# Altium schematic symbol library Connector.SchLib: 48 symbols
Pins are listed as number, name and electrical type; pins without a type are passive.

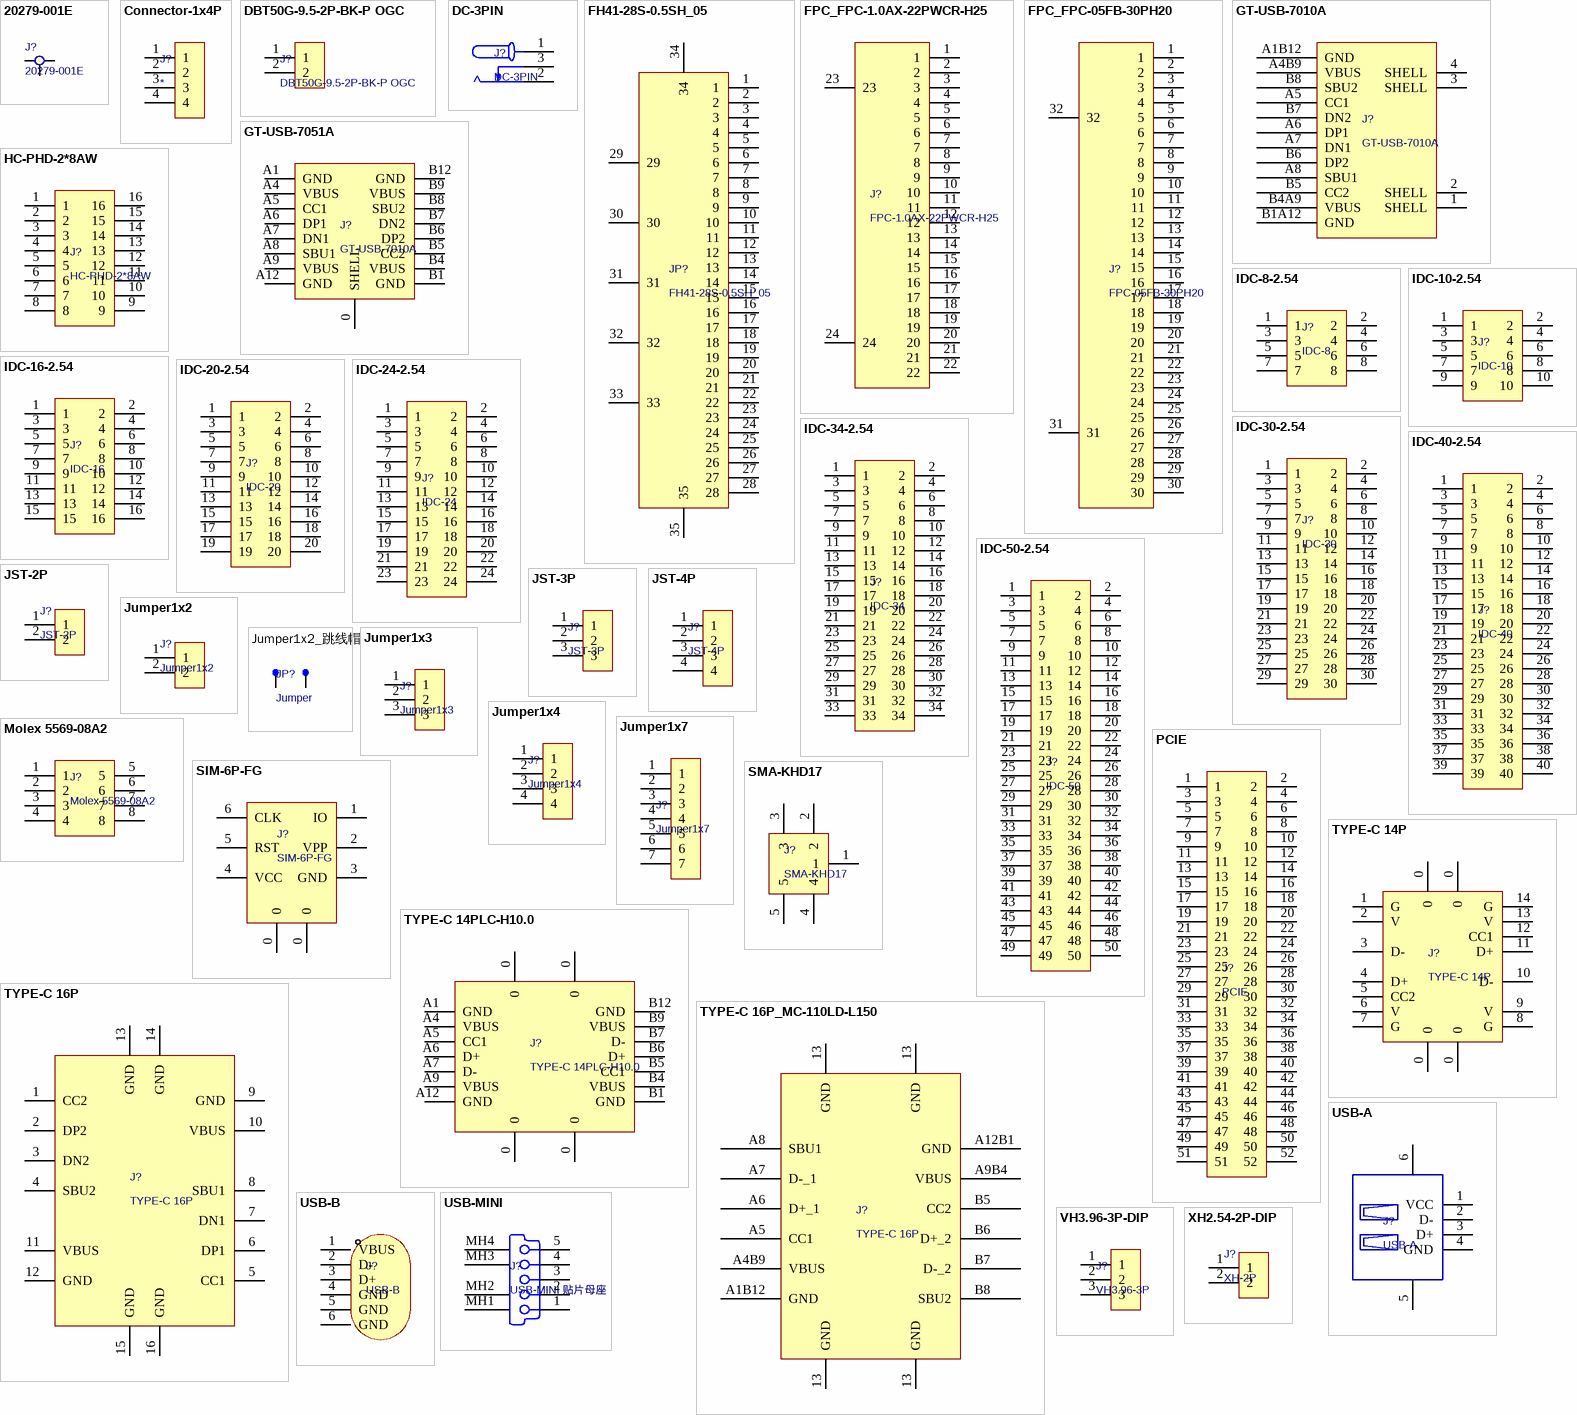
[diagram p0: symbols 20279-001E to XH2.54-2P-DIP]

## 20279-001E
designator J?
天线座; Value: 20279-001E; Value_Footprint: *; State: *
footprint 20279-001E
pins: 1, 2, 3

## Connector-1x4P
designator J?
1x4pin连接器; Value: *; Value_Footprint: *; State: *
pins: 1, 2, 3, 4

## DBT50G-9.5-2P-BK-P OGC
designator J?
栅栏式接线端子 2pin 9.5mm 带盖板; State: *; Value_Footprint: *; Value: DBT50G-9.5-2P-BK-P OGC
footprint DBT50G-9.5-2P-BK-P OGC
pins: 1, 2

## DC-3PIN
designator J?
Value: DC-3PIN; Value_Footprint: *; State: *
footprint DC_3PIN_2.5x6.2
pins: 1, 2, 3

## FH41-28S-0.5SH_05
designator JP?
Value: FH41-28S-0.5SH_05; Value_Footprint: *; State: *
footprint FH41-28S-0.5SH05
pins: 1, 2, 3, 4, 5, 6, 7, 8, 9, 10, 11, 12, 13, 14, 15, 16, 17, 18, 19, 20, 21, 22, 23, 24, 25, 26, 27, 28, 29, 30, 31, 32, 33, 34, 35

## FPC_FPC-1.0AX-22PWCR-H25
designator J?, comment FPC-1.0AX-22PWCR-H25
Value: FPC-1.0AX-22PWCR-H25; Value_Footprint: *; State: *
footprint FPC-1.0AX-22PWCR-H25
pins: 1, 2, 3, 4, 5, 6, 7, 8, 9, 10, 11, 12, 13, 14, 15, 16, 17, 18, 19, 20, 21, 22, 23, 24

## FPC_FPC-05FB-30PH20
designator J?, comment FPC-05FB-30PH20
Value: FPC-05FB-30PH20; Value_Footprint: *; State: *
footprint FPC-05FB-30PH20
pins: 1, 2, 3, 4, 5, 6, 7, 8, 9, 10, 11, 12, 13, 14, 15, 16, 17, 18, 19, 20, 21, 22, 23, 24, 25, 26, 27, 28, 29, 30, 31, 32

## GT-USB-7010A
designator J?
TYPE-C连接器16pin，前插后贴，有柱无弹; Value: GT-USB-7010A; Value_Footprint: *; State: GT-USB-7010A
footprint GT-USB-7010A (TYPE-C 16P 卧贴)
pins: 1 SHELL, 2 SHELL, 3 SHELL, 4 SHELL, A1B12 GND, A4B9 VBUS, A5 CC1, A6 DP1, A7 DN1, A8 SBU1, B1A12 GND, B4A9 VBUS, B5 CC2, B6 DP2, B7 DN2, B8 SBU2

## GT-USB-7051A
designator J?, comment GT-USB-7010A
TYPE-C连接器16pin; Value: GT-USB-7010A; Value_Footprint: *; State: GT-USB-7010A
pins: 0 SHELL, A1 GND, A4 VBUS, A5 CC1, A6 DP1, A7 DN1, A8 SBU1, A9 VBUS, A12 GND, B1 GND, B4 VBUS, B5 CC2, B6 DP2, B7 DN2, B8 SBU2, B9 VBUS, B12 GND

## HC-PHD-2*8AW
designator J?
弯插,P=2mm; Value: HC-PHD-2*8AW; Value_Footprint: *
pins: 1, 2, 3, 4, 5, 6, 7, 8, 9, 10, 11, 12, 13, 14, 15, 16

## IDC-8-2.54
designator J?, comment IDC-8
Value: IDC-8; Value_Footprint: *; State: *
footprint IDC-8-2.54
pins: 1, 2, 3, 4, 5, 6, 7, 8

## IDC-10-2.54
designator J?, comment IDC-10
Value: IDC-10; Value_Footprint: *; State: *
footprint IDC-10-2.54
pins: 1, 2, 3, 4, 5, 6, 7, 8, 9, 10

## IDC-16-2.54
designator J?, comment IDC-16
Value: IDC-16; Value_Footprint: *; State: *
footprint IDC-16-2.54
pins: 1, 2, 3, 4, 5, 6, 7, 8, 9, 10, 11, 12, 13, 14, 15, 16

## IDC-20-2.54
designator J?, comment IDC-20
Value: IDC-20; Value_Footprint: *; State: *
footprint IDC-20-2.54
pins: 1, 2, 3, 4, 5, 6, 7, 8, 9, 10, 11, 12, 13, 14, 15, 16, 17, 18, 19, 20

## IDC-24-2.54
designator J?, comment IDC-24
Value: IDC-24; Value_Footprint: *; State: *
footprint IDC-20-2.54
footprint IDC-24-2.54 (24P简易牛角座)
pins: 1, 2, 3, 4, 5, 6, 7, 8, 9, 10, 11, 12, 13, 14, 15, 16, 17, 18, 19, 20, 21, 22, 23, 24

## IDC-30-2.54
designator J?, comment IDC-30
Value: IDC-30; Value_Footprint: *; State: *
pins: 1, 2, 3, 4, 5, 6, 7, 8, 9, 10, 11, 12, 13, 14, 15, 16, 17, 18, 19, 20, 21, 22, 23, 24, 25, 26, 27, 28, 29, 30

## IDC-34-2.54
designator J?, comment IDC-34
Value: IDC-34; Value_Footprint: *; State: *
pins: 1, 2, 3, 4, 5, 6, 7, 8, 9, 10, 11, 12, 13, 14, 15, 16, 17, 18, 19, 20, 21, 22, 23, 24, 25, 26, 27, 28, 29, 30, 31, 32, 33, 34

## IDC-40-2.54
designator J?, comment IDC-40
Value: IDC-40; Value_Footprint: *; State: *
pins: 1, 2, 3, 4, 5, 6, 7, 8, 9, 10, 11, 12, 13, 14, 15, 16, 17, 18, 19, 20, 21, 22, 23, 24, 25, 26, 27, 28, 29, 30, 31, 32, 33, 34, 35, 36, 37, 38, 39, 40

## IDC-50-2.54
designator J?, comment IDC-50
Value: IDC-50; Value_Footprint: *; State: *
pins: 1, 2, 3, 4, 5, 6, 7, 8, 9, 10, 11, 12, 13, 14, 15, 16, 17, 18, 19, 20, 21, 22, 23, 24, 25, 26, 27, 28, 29, 30, 31, 32, 33, 34, 35, 36, 37, 38, 39, 40, 41, 42, 43, 44, 45, 46, 47, 48, 49, 50

## JST-2P
designator J?
Value: JST-2P; Value_Footprint: *; State: *
pins: 1, 2

## JST-3P
designator J?
Value: JST-3P; Value_Footprint: *; State: *
pins: 1, 2, 3

## JST-4P
designator J?
Value: JST-4P; Value_Footprint: *; State: *
pins: 1, 2, 3, 4

## Jumper1x2
designator J?
Value: Jumper1x2; Value_Footprint: *; State: *
pins: 1, 2

## Jumper1x2_跳线帽
designator JP?, comment Jumper
Value: Jumper; Value_Footprint: *; State: *
pins: 1, 2

## Jumper1x3
designator J?
Value: Jumper1x3; Value_Footprint: *; State: *
pins: 1, 2, 3

## Jumper1x4
designator J?
Value: Jumper1x4; Value_Footprint: *; State: *
pins: 1, 2, 3, 4

## Jumper1x7
designator J?
Value: Jumper1x7; Value_Footprint: *; State: *
pins: 1, 2, 3, 4, 5, 6, 7

## Molex 5569-08A2
designator J?
Molex  2*4P 卧式连接器 4.2*4.2mm; Value_Footprint: 弯插,P=4.2mm; Value: Molex 5569-08A2; State: *
pins: 1, 2, 3, 4, 5, 6, 7, 8

## PCIE
designator J?
Value: PCIE; Value_Footprint: *; State: *
pins: 1, 2, 3, 4, 5, 6, 7, 8, 9, 10, 11, 12, 13, 14, 15, 16, 17, 18, 19, 20, 21, 22, 23, 24, 25, 26, 27, 28, 29, 30, 31, 32, 33, 34, 35, 36, 37, 38, 39, 40, 41, 42, 43, 44, 45, 46, 47, 48, 49, 50, 51, 52

## SIM-6P-FG
designator J?
SIM翻盖卡槽; Value: SIM-6P-FG; Value_Footprint: *; State: *
pins: 0, 0, 1 IO, 2 VPP, 3 GND, 4 VCC, 5 RST, 6 CLK

## SMA-KHD17
designator J?
Value_Footprint: DIP; Value: SMA-KHD17; State: *
pins: 1, 2, 3, 4, 5

## TYPE-C 14P
designator J?
Value: TYPE-C 14P; Value_Footprint: *; State: *
pins: 0 (power), 0 (power), 0 (power), 0 (power), 1 G, 2 V, 3 D-, 4 D+, 5 CC2, 6 V, 7 G, 8 G, 9 V, 10 D-, 11 D+, 12 CC1, 13 V, 14 G

## TYPE-C 14PLC-H10.0
designator J?
首韩 type-c 14P 立插; Value: TYPE-C 14PLC-H10.0; Value_Footprint: *; State: *
pins: 0, 0, 0, 0, A1 GND, A4 VBUS, A5 CC1, A6 D+, A7 D-, A9 VBUS, A12 GND, B1 GND, B4 VBUS, B5 CC1, B6 D+, B7 D-, B9 VBUS, B12 GND

## TYPE-C 16P
designator J?
Value: TYPE-C 16P; Value_Footprint: *; State: *
pins: 1 CC2, 2 DP2, 3 DN2, 4 SBU2, 5 CC1, 6 DP1, 7 DN1, 8 SBU1, 9 GND, 10 VBUS, 11 VBUS, 12 GND, 13 GND, 14 GND, 15 GND, 16 GND

## TYPE-C 16P_MC-110LD-L150
designator J?, comment TYPE-C 16P
Value_Footprint: MC-110LD-L150; Value: TYPE-C 16P; State: *
pins: 13 GND, 13 GND, 13 GND, 13 GND, A1B12 GND, A4B9 VBUS, A5 CC1, A6 D+_1, A7 D-_1, A8 SBU1, A9B4 VBUS, A12B1 GND, B5 CC2, B6 D+_2, B7 D-_2, B8 SBU2

## USB-A
designator J?
Value: USB-A; Value_Footprint: *; State: *
pins: 1 VCC, 2 D-, 3 D+, 4 GND, 5 GND, 6 GND

## USB-B
designator J?
Value: USB-B; Value_Footprint: *; State: *
pins: 1 VBUS, 2 D-, 3 D+, 4 GND, 5 GND, 6 GND

## USB-MINI
designator J?, comment USB-MINI 贴片母座
Value: USB-MINI 贴片母座; Value_Footprint: *; State: *
pins: 1 V BUS (5V) "USB Vcc [Red]", 2 D- "USB Data - [White]", 3 D+ "USB Data + [Green]", 4 ID "Not Connected (or joined to pin 5 via resistor)", 5 GND "Ground [Black]", MH1 Tab "Shell", MH2 Tab "Shell", MH3 Tab "Shell", MH4 Tab "Shell"

## VH3.96-3P-DIP
designator J?, comment VH3.96-3P
Value: VH3.96-3P; Value_Footprint: *; State: *
pins: 1, 2, 3

## XH2.54-2P-DIP
designator J?, comment XH-2P
Value: XH-2P; Value_Footprint: *; State: *
pins: 1, 2

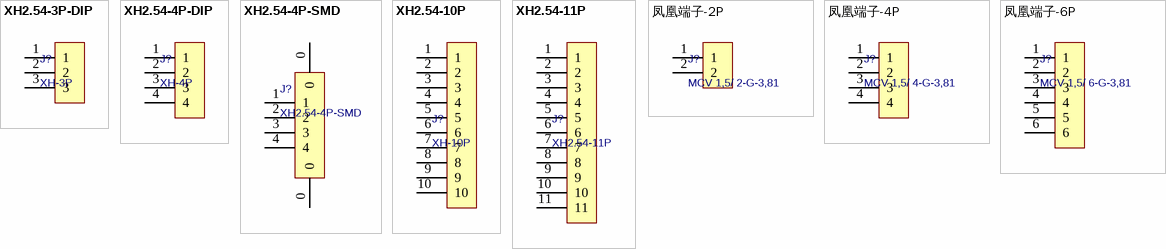
[diagram p1: symbols XH2.54-3P-DIP to 凤凰端子-6P]

## XH2.54-3P-DIP
designator J?, comment XH-3P
Value: XH-3P; Value_Footprint: *; State: *
pins: 1, 2, 3

## XH2.54-4P-DIP
designator J?, comment XH-4P
Value: XH-4P; Value_Footprint: *; State: *
pins: 1, 2, 3, 4

## XH2.54-4P-SMD
designator J?
Value: XH2.54-4P-SMD; Value_Footprint: *; State: *
pins: 0, 0, 1, 2, 3, 4

## XH2.54-10P
designator J?, comment XH-10P
Value: XH-10P; Value_Footprint: *; State: *
pins: 1, 2, 3, 4, 5, 6, 7, 8, 9, 10

## XH2.54-11P
designator J?
Value: XH2.54-11P; Value_Footprint: *; State: *
pins: 1, 2, 3, 4, 5, 6, 7, 8, 9, 10, 11

## 凤凰端子-2P
designator J?, comment MCV 1,5/ 2-G-3,81
Value: MCV 1,5/ 2-G-3,81; Value_Footprint: *; State: *
pins: 1, 2

## 凤凰端子-4P
designator J?, comment MCV 1,5/ 4-G-3,81
Value: MCV 1,5/ 4-G-3,81; Value_Footprint: *; State: *
pins: 1, 2, 3, 4

## 凤凰端子-6P
designator J?, comment MCV 1,5/ 6-G-3,81
Value: MCV 1,5/ 6-G-3,81; Value_Footprint: *; State: *
pins: 1, 2, 3, 4, 5, 6